# Altium footprint library Alcetronics_IC.PcbLib: 43 footprints (part 1 of 3)
Each footprint in its own frame and in the unit in brackets; x right, y up, seen from the top. Pads: shape width x height; smd on the part's side, far side on the other; paste and mask are expansions set on the pad; w line width, h text height; cw(c..) or ccw(c..) is an arc to the next point about the centre after c.
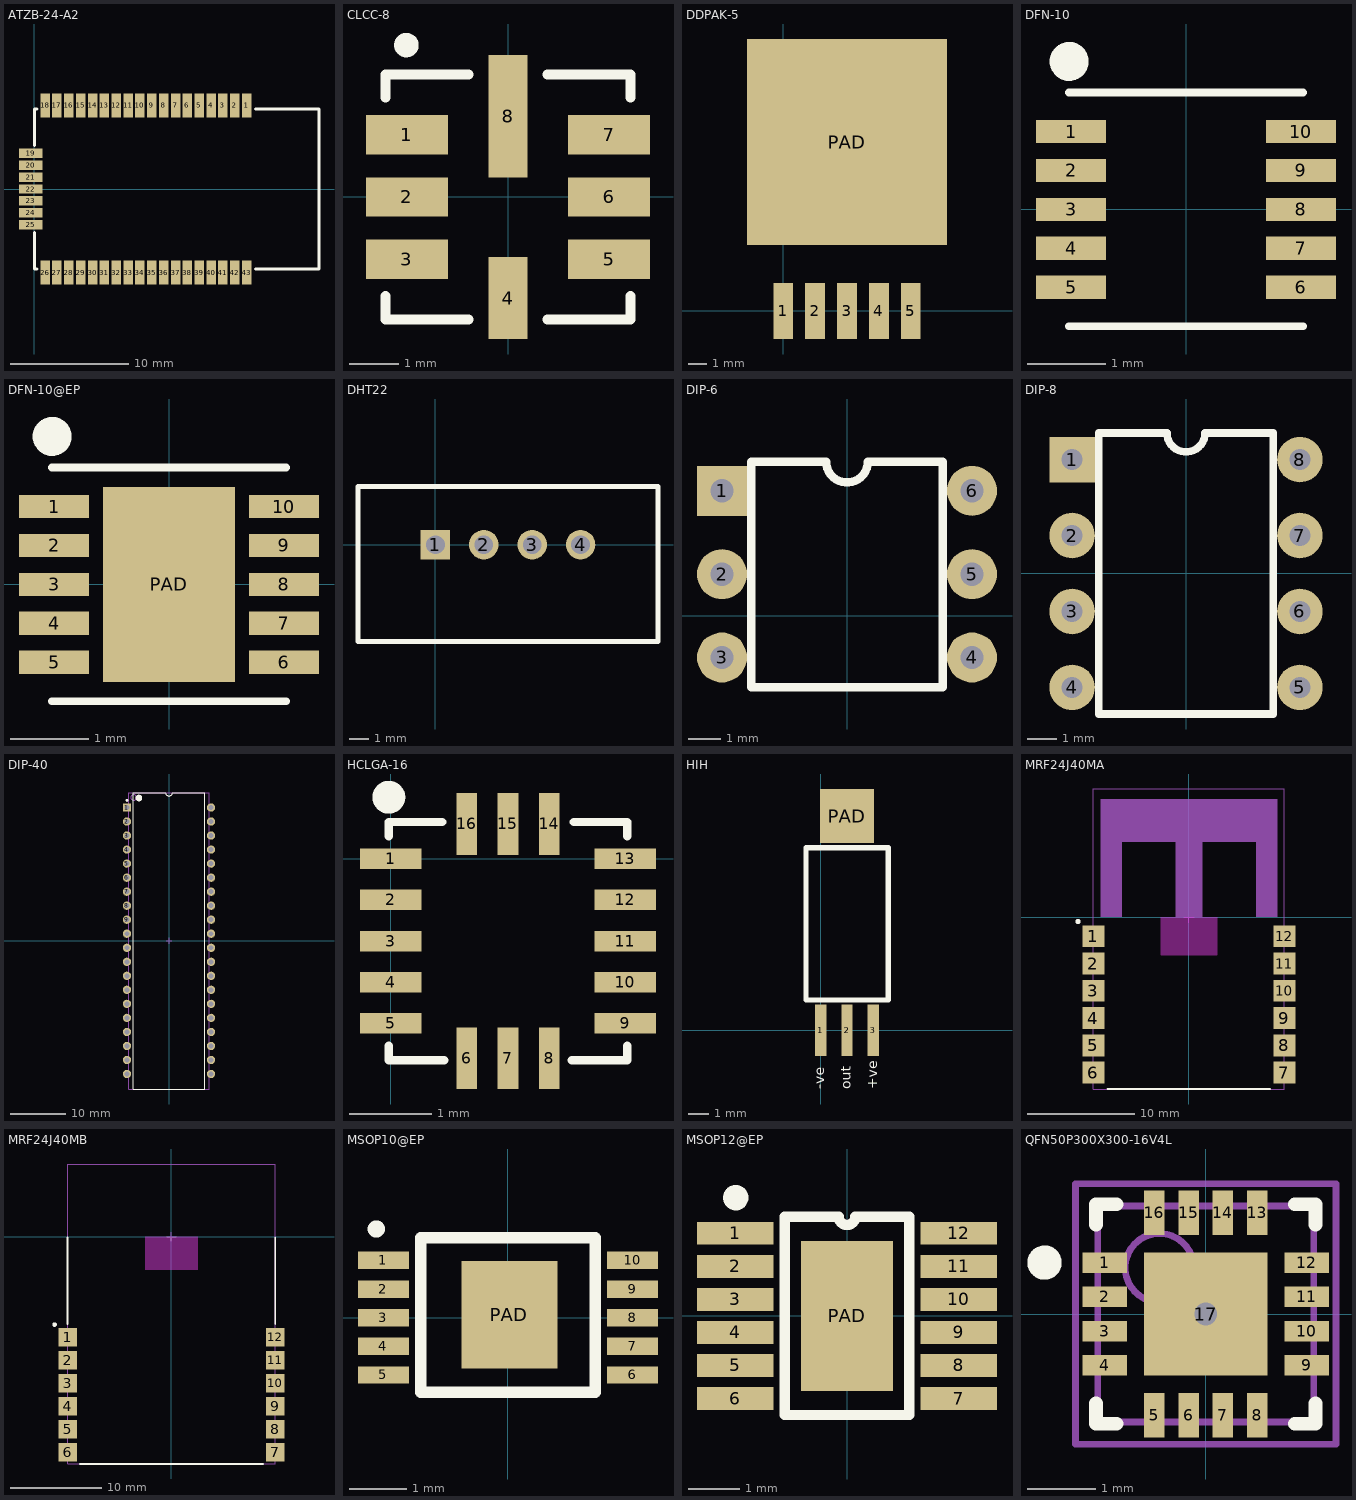
[diagram p0: the footprints below, top view; thin cyan lines are the x and y axes]

## ATZB-24-A2 [mm] "Atmel ATZB-24-A2 footprint"
pads (43):
  rect 0.8x2 smd mask+0.05: 1(17.9,7.05) 2(16.9,7.05) 3(15.9,7.05) 4(14.9,7.05) 5(13.9,7.05) 6(12.9,7.05) 7(11.9,7.05) 8(10.9,7.05) 9(9.9,7.05) 10(8.9,7.05) 11(7.9,7.05) 12(6.9,7.05) 13(5.9,7.05) 14(4.9,7.05) 15(3.9,7.05) 16(2.9,7.05) 17(1.9,7.05) 18(0.9,7.05) 26(0.9,-7.05) 27(1.9,-7.05) 28(2.9,-7.05) 29(3.9,-7.05) 30(4.9,-7.05) 31(5.9,-7.05) 32(6.9,-7.05) 33(7.9,-7.05) 34(8.9,-7.05) 35(9.9,-7.05) 36(10.9,-7.05) 37(11.9,-7.05) 38(12.9,-7.05) 39(13.9,-7.05) 40(14.9,-7.05) 41(15.9,-7.05) 42(16.9,-7.05) 43(17.9,-7.05)
  rect 2x0.8 smd mask+0.05: 19(-0.3,3) 20(-0.3,2) 21(-0.3,1) 22(-0.3,0) 23(-0.3,-1) 24(-0.3,-2) 25(-0.3,-3)
Top Overlay:
  lines w0.254: 0,-3.65 0,-6.75 0.2,-6.75 ; 0,3.65 0,6.75 0.2,6.75 ; 18.65,-6.75 24,-6.75 24,6.75 18.65,6.75

## CLCC-8 [mm]
pads (8):
  rect 1.67x0.8 smd: 1(-2.065,1.27) 2(-2.065,0) 3(-2.065,-1.27) 5(2.065,-1.27) 6(2.065,0) 7(2.065,1.27)
  rect 0.8x1.67 smd: 4(0,-2.065)
  rect 0.8x2.5 smd: 8(0,1.65)
Top Overlay:
  circle w0.25: c-2.075,3.1 r0.125
  lines w0.2: -2.5,-2.025 -2.5,-2.5 -0.8,-2.5 ; -2.5,2.025 -2.5,2.5 -0.8,2.5 ; 0.8,-2.5 2.5,-2.5 2.5,-2.025 ; 0.8,2.5 2.5,2.5 2.5,2.025

## DDPAK-5 [mil]
pads (6):
  rect 42x118.11 smd: 1(0,0) 2(67,0) 3(134,0) 4(201,0) 5(268,0)
  rect 420x433.07 smd: PAD(134,355)

## DFN-10 [mm]
pads (10):
  rect 0.9x0.3 smd: 1(-1.475,1) 2(-1.475,0.5) 3(-1.475,0) 4(-1.475,-0.5) 5(-1.475,-1) 6(1.475,-1) 7(1.475,-0.5) 8(1.475,0) 9(1.475,0.5) 10(1.475,1)
Top Overlay:
  circle w0.25: c-1.5,1.9 r0.125
  lines w0.1: -1.5,-1.5 1.5,-1.5 ; -1.5,1.5 1.5,1.5

## DFN-10@EP [mm]
pads (11):
  rect 0.9x0.3 smd: 1(-1.475,1) 2(-1.475,0.5) 3(-1.475,0) 4(-1.475,-0.5) 5(-1.475,-1) 6(1.475,-1) 7(1.475,-0.5) 8(1.475,0) 9(1.475,0.5) 10(1.475,1)
  rect 1.7x2.5 smd: PAD(0,0)
Top Overlay:
  circle w0.25: c-1.5,1.9 r0.125
  lines w0.1: -1.5,-1.5 1.5,-1.5 ; -1.5,1.5 1.5,1.5

## DHT22 [mil] "DHT22 humidity sensor footprint"
height 988.19
pads (4):
  rect 60x60 hole 38: 1(0,0)
  round 60 hole 38: 2(98.43,0) 3(196.85,0) 4(295.28,0)
Top Overlay:
  lines w10: -157.48,-196.85 452.76,-196.85 452.76,118.11 -157.48,118.11 -157.48,-196.85

## DIP-6 [mil] "Dual inline pins"
height 210
pads (6):
  rect 60x60 hole 28: 1(-150,150)
  round 60 hole 28: 2(-150,50) 3(-150,-50) 4(150,-50) 5(150,50) 6(150,150)
Top Overlay:
  lines w10: -115,-85.63 -115,185 -25,185 ccw(c0,185) 25,185 115,185 115,-85.63 -115,-85.63

## DIP-8 [mil] "Dual inline pins"
height 210
pads (8):
  rect 60x60 hole 28: 1(-150,150)
  round 60 hole 28: 2(-150,50) 3(-150,-50) 4(-150,-150) 5(150,-150) 6(150,-50) 7(150,50) 8(150,150)
Top Overlay:
  lines w10: -115,-185 -115,185 -25,185 ccw(c0,185) 25,185 115,185 115,-185 -115,-185

## DIP-40 [mm] "DIP, 40-Leads, Row Spacing 15.24mm, Pitch 2.54mm, Body 51.8x13.5mm"
height 6.35
pads (40):
  rect 1.5x1.5 hole 0.9: 1(-7.62,24.13)
  round 1.5 hole 0.9: 2(-7.62,21.59) 3(-7.62,19.05) 4(-7.62,16.51) 5(-7.62,13.97) 6(-7.62,11.43) 7(-7.62,8.89) 8(-7.62,6.35) 9(-7.62,3.81) 10(-7.62,1.27) 11(-7.62,-1.27) 12(-7.62,-3.81) 13(-7.62,-6.35) 14(-7.62,-8.89) 15(-7.62,-11.43) 16(-7.62,-13.97) 17(-7.62,-16.51) 18(-7.62,-19.05) 19(-7.62,-21.59) 20(-7.62,-24.13) 21(7.62,-24.13) 22(7.62,-21.59) 23(7.62,-19.05) 24(7.62,-16.51) 25(7.62,-13.97) 26(7.62,-11.43) 27(7.62,-8.89) 28(7.62,-6.35) 29(7.62,-3.81) 30(7.62,-1.27) 31(7.62,1.27) 32(7.62,3.81) 33(7.62,6.35) 34(7.62,8.89) 35(7.62,11.43) 36(7.62,13.97) 37(7.62,16.51) 38(7.62,19.05) 39(7.62,21.59) 40(7.62,24.13)
Top Overlay:
  circle w0.6: c-5.45,25.85 r0.3
  circle w0.25: c-7.62,25.43 r0.125
  lines w0.2: -6.45,-26.85 6.45,-26.85 6.45,26.85 0.635,26.85 cw(c0,26.85) -0.635,26.85 -6.45,26.85 -6.45,-26.85
Mechanical 13:
  circle w0.1: c-6.4,25.95 r0.5
  lines w0.1: -7.3,-26.85 7.3,-26.85 7.3,26.85 -7.3,26.85 -7.3,-26.85
Mechanical 15:
  lines w0.1: -0.5,0 0.5,0 ; 0,-0.5 0,0.5
3D body: height 6.35, standoff 0, extent -7.3,-26.85 7.3,26.85

## HCLGA-16 [mm]
pads (16):
  rect 0.75x0.25 smd: 1(0,0) 2(0,-0.5) 3(0,-1) 4(0,-1.5) 5(0,-2) 9(2.85,-2) 10(2.85,-1.5) 11(2.85,-1) 12(2.85,-0.5) 13(2.85,0)
  rect 0.25x0.75 smd: 6(0.925,-2.425) 7(1.425,-2.425) 8(1.925,-2.425) 14(1.925,0.425) 15(1.425,0.425) 16(0.925,0.425)
Top Overlay:
  circle w0.2: c-0.025,0.75 r0.1
  lines w0.1: -0.025,-2.275 -0.025,-2.45 0.65,-2.45 ; -0.025,0.275 -0.025,0.45 0.625,0.45 ; 2.2,-2.45 2.875,-2.45 2.875,-2.275 ; 2.225,0.45 2.875,0.45 2.875,0.275

## HIH [mm] "Honeywell Humidity Sensor"
height 2.95
pads (4):
  rect 0.55x2.5 smd: 1(0,0) 2(1.27,0) 3(2.54,0)
  rect 2.6x2.6 smd: PAD(1.27,10.3)
Top Overlay:
  lines w0.254: -0.7,1.45 -0.7,8.775 3.25,8.775 3.25,1.45 -0.7,1.45
  text "out" at 1.45,-2.825 h0.5
  text "+ve" at 2.725,-2.825 h0.5
  text "-ve" at 0.175,-2.825 h0.5

## MRF24J40MA [mil] "SM Module; 12 Leads; Body 27.9x17.8x1.7mm (LxWxH), Microchip Recommended"
height 66.93
pads (12):
  rect 80x80 smd paste-159.45 mask+2: 1(-350,-70) 2(-350,-170) 3(-350,-270) 4(-350,-370) 5(-350,-470) 6(-350,-570) 7(350,-570) 8(350,-470) 9(350,-370) 10(350,-270) 11(350,-170) 12(350,-70)
Top Layer keep-out:
  rectangle: -105,-140 105,0
Top Overlay:
  circle w9.84: c-406.5,-15.75 r4.92
  lines w7.87: -297.64,-630 297.64,-630
Mechanical 13:
  rectangle: -49.21,0 49.21,275.59
  region: 324.8,275.59 246.06,275.59 246.06,0 324.8,0
  rectangle: -324.8,0 -246.06,275.59
  rectangle: -324.8,275.59 324.8,433.07
  lines w3.94: 350,-630 350,470 ; 350.39,-630 -350,-630 -350,470 350.39,470
Mechanical 15:
  lines w3.94: -19.69,0 19.68,0 ; 0,-19.68 0,19.69
3D body: height 66.93, standoff 0, extent -349.98,-629.98 349.98,469.98

## MRF24J40MB [mil] "SM Module; 12 Leads; Body 33x22.9x2.5mm (LxWxH), Microchip Recommended"
height 100
pads (12):
  rect 80x80 smd paste-159.45 mask+2: 1(-450,-435) 2(-450,-535) 3(-450,-635) 4(-450,-735) 5(-450,-835) 6(-450,-935) 7(450,-935) 8(450,-835) 9(450,-735) 10(450,-635) 11(450,-535) 12(450,-435)
Top Layer keep-out:
  rectangle: -115,-145 115,0
Top Overlay:
  circle w9.84: c-506.5,-380.75 r4.92
  lines w7.87: -450,-379.13 -450,-3.94 ; -397.64,-985 397.64,-985 ; 450,-379.13 450,-3.94
Mechanical 13:
  lines w3.94: -450,-985 450,-985 450,315 -450,315 -450,-985
Mechanical 15:
  lines w3.94: -19.69,0 19.68,0 ; 0,-19.68 0,19.69
3D body: height 32, standoff 0, extent -449.98,-984.98 449.98,314.98
3D body: height 100, standoff 32, extent -413.37,-972.42 409.43,-0.02

## MSOP10@EP [mm] "eMSOP, 10-Leads"
pads (11):
  rect 0.889x0.305 smd mask+0.05: 1(-2.175,1) 2(-2.175,0.5) 3(-2.175,0) 4(-2.175,-0.5) 5(-2.175,-1) 6(2.175,-1) 7(2.175,-0.5) 8(2.175,0) 9(2.175,0.5) 10(2.175,1)
  rect 1.68x1.88 smd mask+0.05: PAD(0.025,0.05)
Top Overlay:
  circle w0.25: c-2.3,1.55 r0.025
  lines w0.2: -1.525,-1.3 1.525,-1.3 1.525,1.4 -1.525,1.4 -1.525,-1.3

## MSOP12@EP [mm]
pads (13):
  rect 1.5x0.45 smd: 1(-2.2,1.625) 2(-2.2,0.975) 3(-2.2,0.325) 4(-2.2,-0.325) 5(-2.2,-0.975) 6(-2.2,-1.625) 7(2.2,-1.625) 8(2.2,-0.975) 9(2.2,-0.325) 10(2.2,0.325) 11(2.2,0.975) 12(2.2,1.625)
  rect 1.8x2.95 smd paste-0.5: PAD(0,0)
Top Overlay:
  circle w0.25: c-2.188,2.325 r0.125
  lines w0.2: -1.225,-1.95 1.225,-1.95 1.225,1.95 0.162,1.95 cw(c0,1.95) -0.162,1.95 -1.225,1.95 -1.225,-1.95

## QFN50P300X300-16V4L [mm] "QFN, 16-Leads, Body 3x3mm, Pitch 0.5mm, IPC High Density"
height 1
pads (17):
  rect 0.65x0.3 smd: 1(-1.475,0.75) 2(-1.475,0.25) 3(-1.475,-0.25) 4(-1.475,-0.75) 9(1.475,-0.75) 10(1.475,-0.25) 11(1.475,0.25) 12(1.475,0.75)
  rect 0.3x0.65 smd: 5(-0.75,-1.475) 6(-0.25,-1.475) 7(0.25,-1.475) 8(0.75,-1.475) 13(0.75,1.475) 14(0.25,1.475) 15(-0.25,1.475) 16(-0.75,1.475)
  rect 1.8x1.8 smd: 17(0,0)
via 0,0 diameter 0.66 hole 0.33
Top Overlay:
  circle w0.25: c-2.35,0.75 r0.125
  lines w0.2: -1.6,-1.3 -1.6,-1.6 -1.3,-1.6 ; -1.6,1.3 -1.6,1.6 -1.3,1.6 ; 1.3,-1.6 1.6,-1.6 1.6,-1.3 ; 1.3,1.6 1.6,1.6 1.6,1.3
Mechanical 13:
  circle w0.1: c-0.675,0.675 r0.5
  lines w0.1: -1.575,-1.575 -1.575,1.575 1.575,1.575 1.575,-1.575 -1.575,-1.575
Mechanical 15:
  lines w0.1: -0.5,0 0.5,0 ; 0,-0.5 0,0.5 ; -1.9,-1.9 -1.9,1.9 1.9,1.9 1.9,-1.9 -1.9,-1.9
3D body: height 1, standoff 0, extent -1.575,-1.575 1.575,1.575